# EAGLE library part 4DIG_7SEG_056 (library 7-seg-disp)
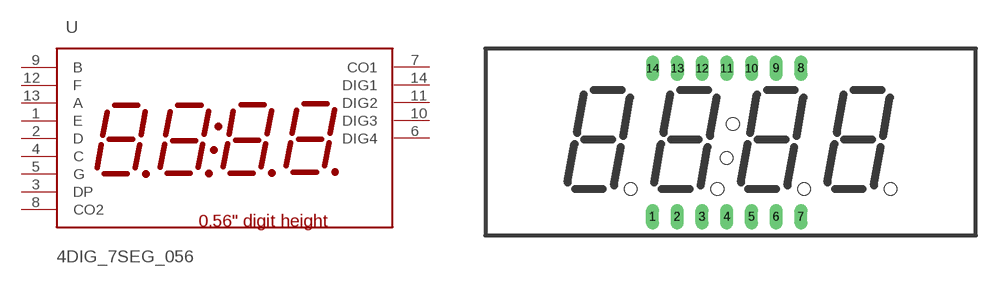
[diagram p1: symbol with the pads of 4DIG_7SEG_056; footprint 4DIG_7SEG_056]

Designator prefix -

## 4DIG_7SEG_056  [4DIG_7SEG_056]
1  E
2  D
3  DP
4  C
5  G
6  DIG4
7  CO1
8  CO2
9  B
10  DIG3
11  DIG2
12  F
13  A
14  DIG1

## Footprint 4DIG_7SEG_056 (pad centres in mm)
drill 0.8 long: 1 -7.62,-7.62; 2 -5.08,-7.62; 3 -2.54,-7.62; 4 0,-7.62; 5 2.54,-7.62; 6 5.08,-7.62; 7 7.62,-7.62; 8 7.62,7.62; 9 5.08,7.62; 10 2.54,7.62; 11 0,7.62; 12 -2.54,7.62; 13 -5.08,7.62; 14 -7.62,7.62